# Altium footprint library SOD-123-2.PCBLIB: 3 footprints
Each footprint in its own frame and in the unit in brackets; x right, y up, seen from the top. Pads: shape width x height; smd on the part's side, far side on the other; paste and mask are expansions set on the pad; w line width, h text height; cw(c..) or ccw(c..) is an arc to the next point about the centre after c.
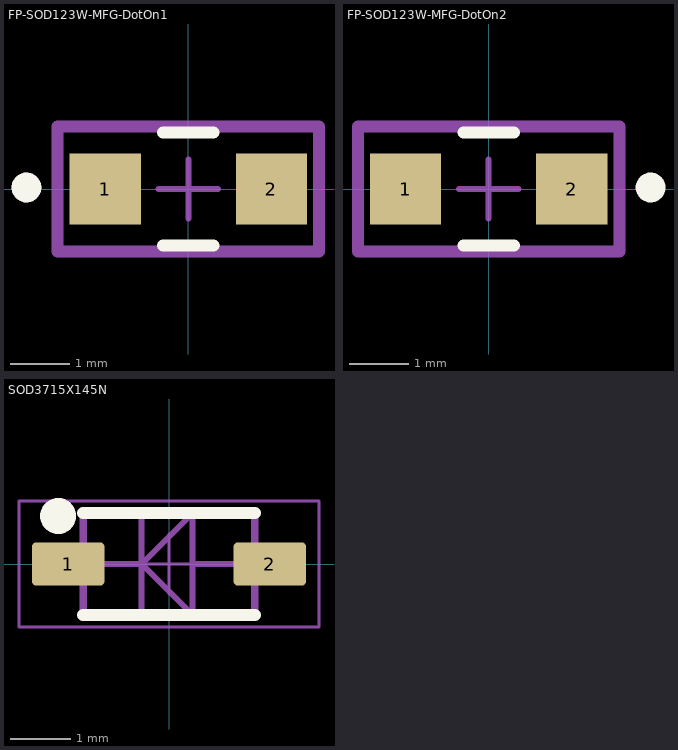
[diagram p0: the footprints below, top view; thin cyan lines are the x and y axes]

## FP-SOD123W-MFG-DotOn1 [mm]
pads (2):
  rect 1.2x1.2 smd: 1(-1.4,0) 2(1.4,0)
Top Overlay:
  circle w0.25: c-2.725,0.025 r0.125
  lines w0.2: -0.425,-0.95 0.425,-0.95 ; -0.425,0.95 0.425,0.95
Top Paste:
  rectangle: 0.85,-0.55 1.95,0.55
  rectangle: -1.95,-0.55 -0.85,0.55
Top Assembly:
  circle w0.25: c-2.725,0.025 r0.125
  lines w0.2: -2.2,-1.05 -2.2,1.05 2.2,1.05 2.2,-1.05 -2.2,-1.05
Top Courtyard:
  lines w0.2: -2.2,-1.05 -2.2,1.05 2.2,1.05 2.2,-1.05 -2.2,-1.05
Top Designator:
  text ".Designator" at 0,0.188 h1
Top Component Center:
  lines w0.1: -0.5,0 0.5,0 ; 0,-0.5 0,0.5
3D body "Diode_Nexperia_PTVS7V0S1UR_115_eec.STEP": height 0.25, standoff 0, extent -2.2,-1.05 2.2,1.05

## FP-SOD123W-MFG-DotOn2 [mm]
pads (2):
  rect 1.2x1.2 smd: 1(-1.4,0) 2(1.4,0)
Top Overlay:
  circle w0.25: c2.725,0.025 r0.125
  lines w0.2: -0.425,-0.95 0.425,-0.95 ; -0.425,0.95 0.425,0.95
Top Paste:
  rectangle: 0.85,-0.55 1.95,0.55
  rectangle: -1.95,-0.55 -0.85,0.55
Top Assembly:
  lines w0.2: -2.2,-1.05 -2.2,1.05 2.2,1.05 2.2,-1.05 -2.2,-1.05
Top Courtyard:
  lines w0.2: -2.2,-1.05 -2.2,1.05 2.2,1.05 2.2,-1.05 -2.2,-1.05
Top Designator:
  text ".Designator" at 0,0.188 h1
Top Component Center:
  lines w0.1: -0.5,0 0.5,0 ; 0,-0.5 0,0.5
3D body "Diode_Nexperia_PTVS7V0S1UR_115_eec.STEP": height 1.1, standoff 0, extent -1.75,-0.85 1.75,0.85

## SOD3715X145N [mm]
height 1.45
pads (2):
  rrect20% 1.21x0.72 smd: 1(-1.68,0) 2(1.68,0)
Top Overlay:
  circle w0.3: c-1.85,0.8 r0.15
  lines w0.2: -1.43,-0.85 1.43,-0.85 ; -1.43,0.85 1.43,0.85
Top Assembly:
  lines w0.1: -1.43,0 -0.455,0 ; -0.455,-0.85 -0.455,0 ; -0.455,0.85 -0.455,0 ; 0.395,0 1.42,0 ; 0.445,-0.85 0.395,-0.8 0.395,0.85 -0.455,0 ; -0.455,0 -0.455,0 ; -0.455,0 0.395,-0.85 ; 0.395,-0.85 0.395,-0.85
  lines w0.12: -1.43,-0.85 -1.43,0.85 1.43,0.85 1.43,-0.85 -1.43,-0.85
Top Courtyard:
  lines w0.05: -2.5,-1.05 -2.5,1.05 2.5,1.05 2.5,-1.05 -2.5,-1.05
Top Designator:
  text ".Designator" at 1.8,-0.5 h1
Top Component Center:
  lines w0.05: -0.5,0 0.5,0 ; 0,-0.5 0,0.5
3D body "User Library-SOD-123_DiodesInc.STEP": height 1.42, standoff -0.03, extent -1.925,-0.85 1.925,0.85